# Altium footprint library microfit 24p.PcbLib: 6 footprints
Each footprint in its own frame and in the unit in brackets; x right, y up, seen from the top. Pads: shape width x height; smd on the part's side, far side on the other; paste and mask are expansions set on the pad; w line width, h text height; cw(c..) or ccw(c..) is an arc to the next point about the centre after c.
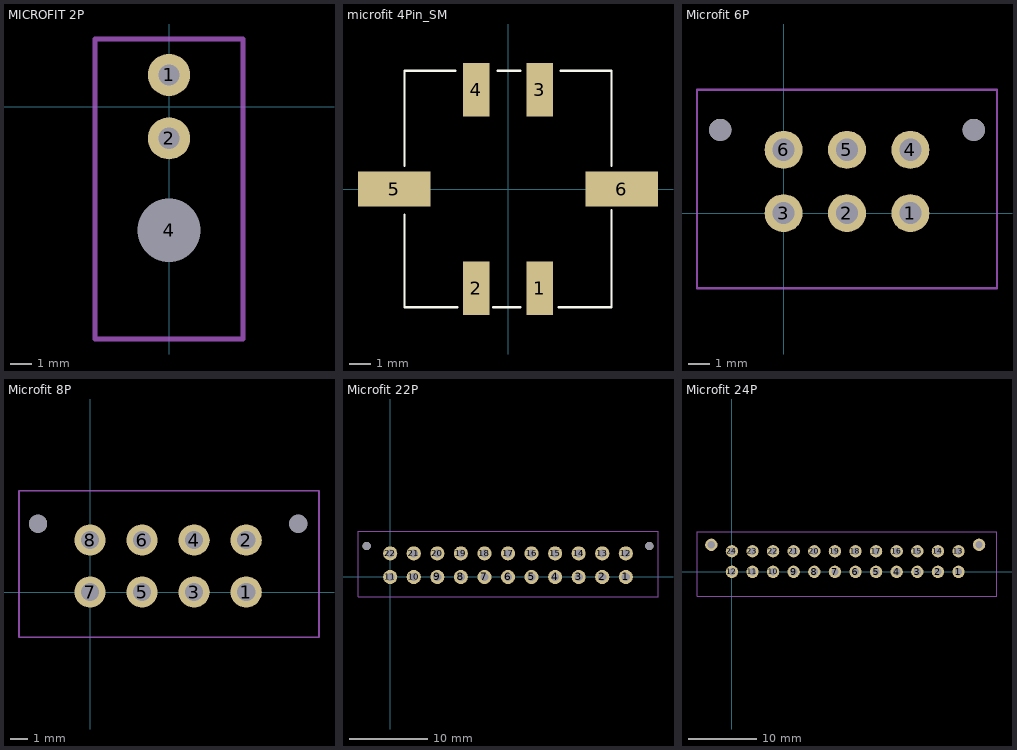
[diagram p0: the footprints below, top view; thin cyan lines are the x and y axes]

## MICROFIT 2P [mm]
pads (3):
  round 2 hole 1: 1(0,1.5) 2(0,-1.5)
  round 2 hole 3: 4(0,-5.85)
Mechanical 1:
  lines w0.25: -3.5,-11 3.5,-11 3.5,3.2 -3.5,3.2 -3.5,-11
3D body: height 8.83, standoff -3.12, extent -3.5,-10.42 3.65,1.82

## microfit 4Pin_SM [mm]
pads (6):
  rect 1.27x2.54 smd: 1(1.5,-4.7) 2(-1.5,-4.7) 3(1.5,4.7) 4(-1.5,4.7)
  rect 3.43x1.65 smd: 5(-5.39,0) 6(5.39,0)
Top Overlay:
  lines w0.1: -4.9,-1.2 -4.9,-5.6 -2.4,-5.6 ; -4.9,1.1 -4.9,5.6 -2.5,5.6 ; -0.7,-5.6 0.6,-5.6 ; -0.5,5.6 0.6,5.6 ; 2.4,-5.6 4.9,-5.6 4.9,-1 ; 2.5,5.6 4.9,5.6 4.9,1.1
3D body: height 9.95, standoff -0.01, extent -6.825,-5.61 6.825,5.59

## Microfit 6P [mm]
height 9.855
pads (8):
  round 1.8 hole 1.05: 1(6,0) 2(3,0) 3(0,0) 4(6,3) 5(3,3) 6(0,3)
  round 1.05 hole 1.05: ""(-3,3.94) ""(9,3.94)
Mechanical 1:
  lines w0.1: -4.1,-3.556 -4.1,5.842 10.1,5.842 10.1,-3.556 -4.1,-3.556

## Microfit 8P [mm]
height 9.855
pads (10):
  round 1.8 hole 1.05: 1(9,0) 2(9,3) 3(6,0) 4(6,3) 5(3,0) 6(3,3) 7(0,0) 8(0,3)
  round 1.05 hole 1.05: ""(-3,3.94) ""(12,3.94)
Mechanical 1:
  lines w0.1: -4.1,-2.6 13.2,-2.6 13.2,5.842 -4.1,5.842 -4.1,-2.6
3D body: height 9.95, standoff -3.14, extent -3.575,-2.47 12.575,6.3

## Microfit 22P [mm]
height 9.855
pads (24):
  round 1.8 hole 1.05: 1(30,0) 2(27,0) 3(24,0) 4(21,0) 5(18,0) 6(15,0) 7(12,0) 8(9,0) 9(6,0) 10(3,0) 11(0,0) 12(30,3) 13(27,3) 14(24,3) 15(21,3) 16(18,3) 17(15,3) 18(12,3) 19(9,3) 20(6,3) 21(3,3) 22(0,3)
  round 1.05 hole 1.05: ""(-3,3.94) ""(33,3.94)
Mechanical 1:
  lines w0.1: -4.1,-2.5 34.1,-2.5 34.1,5.8 -4.1,5.8 -4.1,-2.5
3D body: height 9.95, standoff -3.14, extent -3.575,-2.47 33.575,6.3

## Microfit 24P [mm]
height 9.855
pads (26):
  round 1.8 hole 1.05: 1(33,0) 2(30,0) 3(27,0) 4(24,0) 5(21,0) 6(18,0) 7(15,0) 8(12,0) 9(9,0) 10(6,0) 11(3,0) 12(0,0) 13(33,3) 14(30,3) 15(27,3) 16(24,3) 17(21,3) 18(18,3) 19(15,3) 20(12,3) 21(9,3) 22(6,3) 23(3,3) 24(0,3) ""(-3,3.94) ""(36,3.94)
Mechanical 1:
  lines w0.1: -5.08,-3.556 38.608,-3.556 38.608,5.842 -5.08,5.842 -5.08,-3.556